# Altium footprint library SOT50P160X60-6N.PcbLib: 1 footprints
Each footprint in its own frame and in the unit in brackets; x right, y up, seen from the top. Pads: shape width x height; smd on the part's side, far side on the other; paste and mask are expansions set on the pad; w line width, h text height; cw(c..) or ccw(c..) is an arc to the next point about the centre after c.
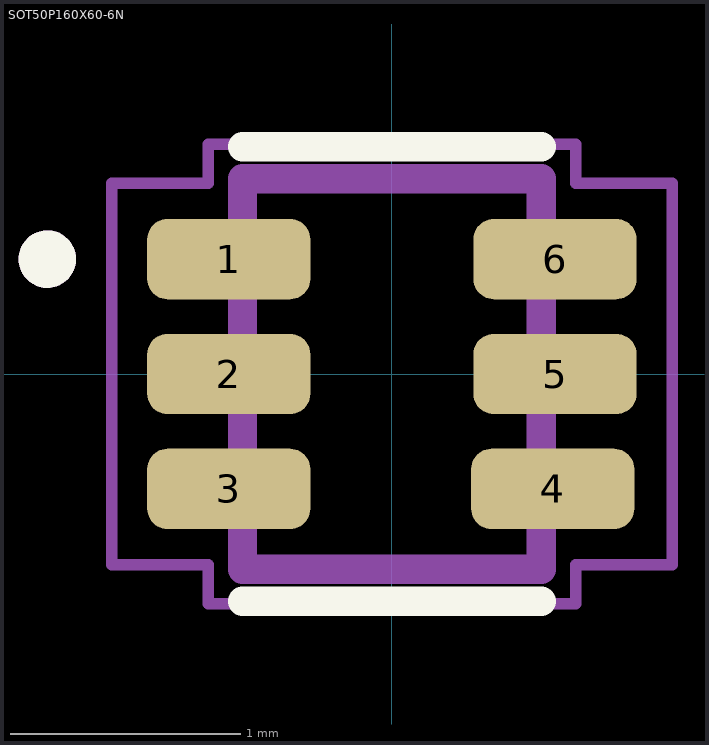
[diagram p0: the footprint, top view; thin cyan lines are the x and y axes]

## SOT50P160X60-6N [mm]
pads (6):
  rrect50% 0.71x0.35 smd: 1(-0.71,0.5) 2(-0.71,0) 3(-0.71,-0.5) 4(0.7,-0.5) 5(0.71,0) 6(0.71,0.5)
Top Overlay:
  circle w0.15: c-1.5,0.5 r0.05
  lines w0.127: -0.65,-0.989 0.65,-0.989 ; -0.65,0.989 0.65,0.989
Mechanical 13:
  circle w0.15: c-1.5,0.5 r0.05
  lines w0.127: -0.65,-0.85 -0.65,0.85 0.65,0.85 0.65,-0.85 -0.65,-0.85
Mechanical 15:
  lines w0.05: -1.22,-0.83 -1.22,0.83 -0.8,0.83 -0.8,1 0.8,1 0.8,0.83 1.22,0.83 1.22,-0.83 0.8,-0.83 0.8,-1 -0.8,-1 -0.8,-0.83 -1.22,-0.83
3D body "step_temp.STEP": height 0.6, standoff 0, extent -0.8,-0.8 0.8,0.8